# Altium integrated library USB Relay.IntLib: 17 symbols
Pins are listed as number, name and electrical type; pins without a type are passive.

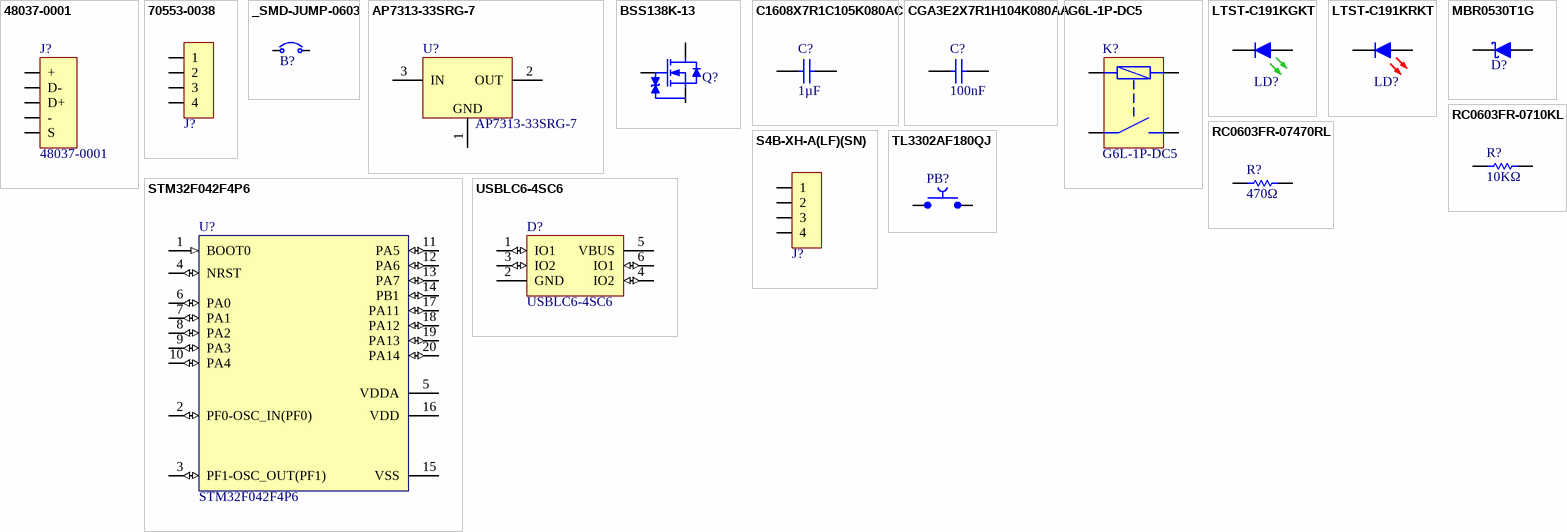
[diagram p0: symbols 48037-0001 to USBLC6-4SC6]

## 48037-0001
designator J?
Conn USB type A plug 4 pin Horizontal TH; Manufacturer: Molex; Voltage Rating: 30V; Current Rating: 1.5A; Manufacturer Part Number: 48037-0001; Mount: Through Hole; ComponentLink1URL: https://www.molex.com/en-us/products/part-detail/480370001; ComponentLink1Description: Data Sheet
footprint 48037-0001 (USB Connectors type A plug 4 pin Horizontal)
pins: 1 +, 2 D-, 3 D+, 4 -, S

## 70553-0038
designator J?  (value not drawn)
Conn Shrouded, Series Molex 70058, 4 Pos Header, (2.54mm) Through Hole, Right Angle Tin; Current Rating: 3A; Voltage Rating: 250V; Manufacturer: Molex; Manufacturer Part Number: 70553-0038; Mount: Through Hole; ComponentLink1URL: https://www.molex.com/webdocs/datasheets/pdf/en-us/0705530038_PCB_HEADERS.pdf; ComponentLink1Description: Data Sheet
footprint 70553-0038 (Connector Molex 70553 - 4 Pos)
pins: 1, 2, 3, 4

## _SMD-JUMP-0603
designator B?  (value not drawn)  (no BOM)
Option Jumper smd 0603; Mount: Surface Mount; Case: 0603
footprint _SMD-JUMP-0603 (Jumper smd 0603)
pins: 1, 2

## AP7313-33SRG-7
designator U?
LDO 3.3V 150mA Out  6Vin 130mV Dropout, Quiescent current 65uA Startup 80µs SOT-23; Manufacturer: Diodes; Manufacturer Part Number: AP7313-33SRG-7; ComponentLink1Description: Data Sheet; ComponentLink1URL: https://www.diodes.com/assets/Datasheets/AP7313.pdf; Mount: Surface Mount; Case: SOT-223
footprint SOT-23 (SOT23, 3-Leads, Body 2.90x2.45mm, Pitch 0.95mm, IPC Medium Density)
pins: 1 GND (power), 2 OUT (power), 3 IN (power)

## BSS138K-13
designator Q?  (value not drawn)
Mosfet N 50V Vds 20V Vgs ESD 1.4R SOT-23; Manufacturer: Diodes; Manufacturer Part Number: BSS138K-13; Mount: Surface Mount; Case: SOT-23; ComponentLink1Description: Data Sheet; ComponentLink1URL: https://www.diodes.com/assets/Datasheets/BSS138K.pdf
footprint SOT-23 (SOT23, 3-Leads, Body 2.90x2.45mm, Pitch 0.95mm, IPC Medium Density)
pins: 1 G, 2 S, 3 D

## C1608X7R1C105K080AC
designator C?, comment 1µF
Cap 0603 Case Ceramic 1uF 16V X7R; Manufacturer: TDK; Manufacturer Part Number: C1608X7R1C105K080AC; Value: 1u; Mount: Surface Mount; Case: 0603; Capacitance: 1uF; Dielectric: X7R; Voltage Rating: 16V; ComponentLink1URL: https://www.murata.com/en-eu/products/productdetail?partno=GRM188Z71C475KE21%23; ComponentLink1Description: Data Sheet
footprint C0603-H90 (Chip Capacitor, 2-Leads, Body 1.60x0.80mm, IPC Medium Density)
pins: 1, 2

## CGA3E2X7R1H104K080AA
designator C?, comment 100nF
Cap 0603 Case Ceramic 100nF 50V X7R; Manufacturer: TDK; Manufacturer Part Number: CGA3E2X7R1H104K080AA; Value: 100n; Mount: Surface Mount; Case: 0603; Capacitance: 100nF; Dielectric: X7R; Voltage Rating: 50V; ComponentLink1URL: https://product.tdk.com/system/files/dam/doc/product/capacitor/ceramic/mlcc/catalog/mlcc_commercial_general_en.pdf; ComponentLink1Description: Data Sheet
footprint C0603-H90 (Chip Capacitor, 2-Leads, Body 1.60x0.80mm, IPC Medium Density)
pins: 1, 2

## G6L-1P-DC5
designator K?
Relay Low Signal Sealed SPST-NO 1A 5VDC Through Hole Tube; Manufacturer: Omron; Manufacturer Part Number: G6L-1P-DC5; ComponentLink1URL: http://www.farnell.com/datasheets/1846831.pdf; ComponentLink1Description: Data Sheet; Mount: Through Hole
footprint G6L-1P (Relay G6L-1P series)
pins: 2 C, 4 NO, 5, 8

## LTST-C191KGKT
designator LD?  (value not drawn)
LED 0603 Top Green 571nm 2-Pin; Manufacturer: Vishay Lite-On; Manufacturer Part Number: LTST-C191KGKT; Mount: Surface Mount; Case: 0603; ComponentLink1URL: https://optoelectronics.liteon.com/upload/download/DS22-2000-228/LTST-C191KGKT.PDF; ComponentLink1Description: Data Sheet
footprint LED-0603-G (Chip LED, Green, 2-Leads, Body 1.60x0.8mm, IPC Medium Density)
pins: 1 K, 2 A

## LTST-C191KRKT
designator LD?  (value not drawn)
LED 0603 Top Red 631nm 2-Pin; Manufacturer: Vishay Lite-On; Manufacturer Part Number: LTST-C191KRKT; Mount: Surface Mount; Case: 0603; ComponentLink1URL: https://optoelectronics.liteon.com/upload/download/DS22-2000-223/LTST-C191KRKT.PDF; ComponentLink1Description: Data Sheet
footprint LED-0603-R (Chip LED, Red, 2-Leads, Body 1.60x0.8mm, IPC Medium Density)
pins: 1 K, 2 A

## MBR0530T1G
designator D?  (value not drawn)
Diode Schottky 30V 0.5A 2-Pin SOD-123; Manufacturer: ON Semiconductor; Manufacturer Part Number: MBR0530T1G; Mount: Surface Mount; Case: SOD-123; Current Rating: 0.5A; ComponentLink1URL: https://www.onsemi.com/pdf/datasheet/mbr0530t1-d.pdf; ComponentLink1Description: Data Sheet
footprint SOD-323 (SODJL, 2-Leads,)
pins: 1 K, 2 A

## RC0603FR-0710KL
designator R?, comment 10KΩ
Resistor 0603 Case 10KR 1% 1/10W; Manufacturer: Yageo; Manufacturer Part Number: RC0603FR-0710KL; Voltage Rating: 150V; Value: 10K; Case: 0603; Resistance: 10KR; ComponentLink1URL: https://datasheet.ciiva.com/2519/pyu-r-int-thick-7-2519712.pdf; ComponentLink1Description: Data Sheet; Mount: Surface Mount
footprint R0603-H55 (Chip Resistor, 2-Leads, Body 1.60x0.80mm, IPC Medium Density)
pins: 1, 2

## RC0603FR-07470RL
designator R?, comment 470Ω
Resistor 0603 Case 470R 1% 1/10W; Manufacturer: Yageo; Manufacturer Part Number: RC0603FR-07470RL; Voltage Rating: 150V; Value: 470; Case: 0603; Resistance: 470R; ComponentLink1URL: https://datasheet.ciiva.com/11808/0900766b8106beab-11808155.pdf; ComponentLink1Description: Data Sheet; Mount: Surface Mount
footprint R0603-H55 (Chip Resistor, 2-Leads, Body 1.60x0.80mm, IPC Medium Density)
pins: 1, 2

## S4B-XH-A(LF)(SN)
designator J?  (value not drawn)
Conn Shrouded, Series JST XH, 4 Pos Header,(2.50mm) Through Hole, Right Angle Tin; Current Rating: 3A; Voltage Rating: 250V; Manufacturer: JST; Manufacturer Part Number: S4B-XH-A(LF)(SN); Mount: Through Hole; ComponentLink1URL: https://datasheet.ciiva.com/726/exh-726400.pdf; ComponentLink1Description: Data Sheet
footprint JST S4B-XH-A (Connector JST S4B-XH-A)
pins: 1, 2, 3, 4

## STM32F042F4P6
designator U?
STM32 Arm Cortex-M0 USB line MCU 16 Kbytes of Flash 48 MHz CPU USB CAN CEC; Manufacturer: STMicroelectronics; Frequency: 48 MHz; Manufacturer Part Number: STM32F042F4P6; Mount: Surface Mount; ComponentLink2URL: https://www.st.com/resource/en/datasheet/stm32f042f4.pdf; ComponentLink2Description: DataSheet; Case: TSSOP-20
footprint TSSOP-20 (TSSOP 20 Pin)
pins: 1 BOOT0 (in), 2 PF0-OSC_IN(PF0) (io), 3 PF1-OSC_OUT(PF1) (io), 4 NRST (io), 5 VDDA (power), 6 PA0 (io), 7 PA1 (io), 8 PA2 (io), 9 PA3 (io), 10 PA4 (io), 11 PA5 (io), 12 PA6 (io), 13 PA7 (io), 14 PB1 (io), 15 VSS (power), 16 VDD (power), 17 PA11 (io), 18 PA12 (io), 19 PA13 (io), 20 PA14 (io)

## TL3302AF180QJ
designator PB?  (value not drawn)
Tactile Switch Rectangular 6.00x3.55mm. Height 4.3mm. J-Lead 50mA 12VDC 180gf SMD; Manufacturer: E-Switch; Voltage Rating: 12V; Manufacturer Part Number: TL3302AF180QJ; Mount: Through Hole; Current Rating: 50 mA; ComponentLink1URL: https://sten-eswitch-13110800-production.s3.amazonaws.com/system/asset/product_line/data_sheet/159/TL3302.pdf; ComponentLink1Description: Data Sheet
footprint TL3302AFXXXQJ (Tacticle Switch)
pins: 1, 2

## USBLC6-4SC6
designator D?
ESD Protection Diodes / TVS Diodes 2 Line 2.5pF USB 2.0 ESD Protect SOT23-6; Manufacturer: STMicroelectronics; Manufacturer Part Number: USBLC6-4SC6; Mount: Surface Mount; ComponentLink1URL: https://www.mouser.it/datasheet/2/389/usblc6_2-1852789.pdf; ComponentLink1Description: Data Sheet; Case: STO23-6
footprint SOT-236 (SOT23, 6-Leads, Body 2.85x2.80mm, Pitch 0.95mm, IPC Medium Density)
pins: 1 IO1 (io), 2 GND (power), 3 IO2 (io), 4 IO2 (io), 5 VBUS (power), 6 IO1 (io)